# EAGLE library part ATMEGA*8 (library CDC Library v130)
8-bit AVR Microcontroller 4/8/16/32 kbytes flash 512/1k/1k/2k bytes SRAM 256/512/512/1k bytes EEPROM USART, 6/8-channel 10 bit ADC Pin compatible with Atmega8(L,A) Note: ADC6 and ADC7 are not available in 28-lead packages
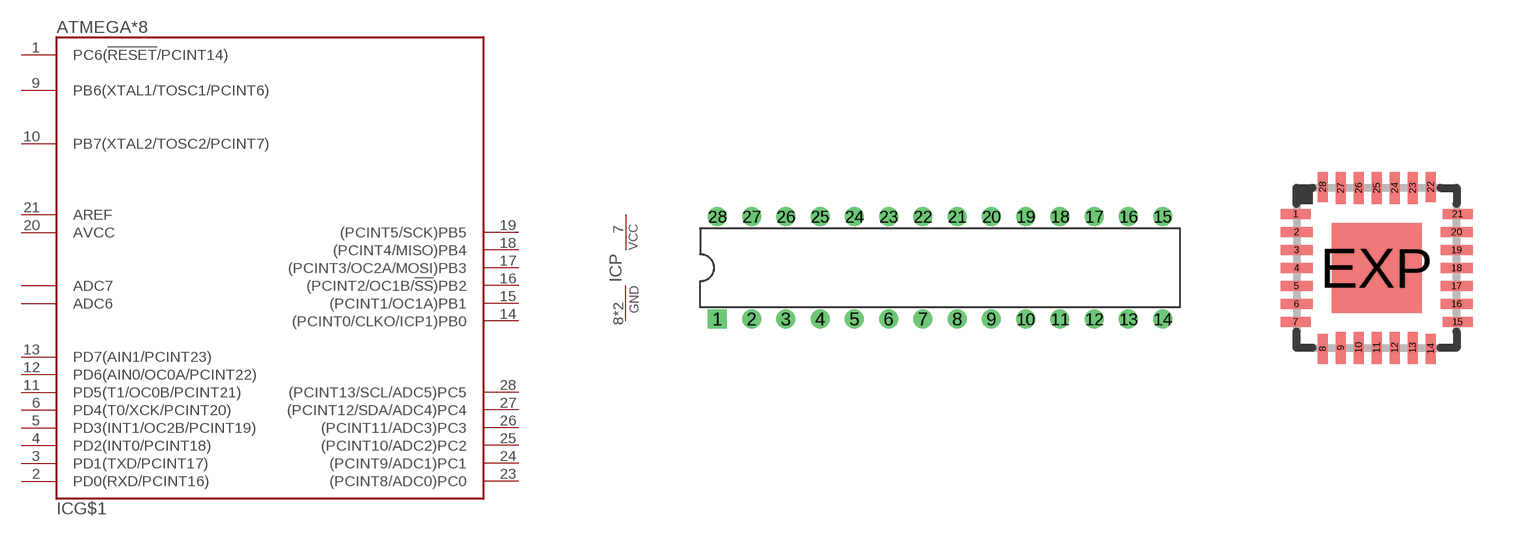
[diagram p0: symbol with the pads of DIL28-3; footprints DIL28-3, QFN28_4X4_0.45]

Designator prefix IC; gates G$1=MEGA328 P=PWR

## ATMEGA168V-10PU, ATMEGA48V-10PU, ATMEGA88V-10PU  [DIL28-3]
1  G$1:PC6(!RESET!/PCINT14)
2  G$1:PD0(RXD/PCINT16)
3  G$1:PD1(TXD/PCINT17)
4  G$1:PD2(INT0/PCINT18)
5  G$1:PD3(INT1/OC2B/PCINT19)
6  G$1:PD4(T0/XCK/PCINT20)
7  P:VCC  pwr
8  P:GND  pwr
9  G$1:PB6(XTAL1/TOSC1/PCINT6)
10  G$1:PB7(XTAL2/TOSC2/PCINT7)
11  G$1:PD5(T1/OC0B/PCINT21)
12  G$1:PD6(AIN0/OC0A/PCINT22)
13  G$1:PD7(AIN1/PCINT23)
14  G$1:(PCINT0/CLKO/ICP1)PB0
15  G$1:(PCINT1/OC1A)PB1
16  G$1:(PCINT2/OC1B/!SS!)PB2
17  G$1:(PCINT3/OC2A/MOSI)PB3
18  G$1:(PCINT4/MISO)PB4
19  G$1:(PCINT5/SCK)PB5
20  G$1:AVCC  pwr
21  G$1:AREF  pas
22  P:GND  pwr
23  G$1:(PCINT8/ADC0)PC0
24  G$1:(PCINT9/ADC1)PC1
25  G$1:(PCINT10/ADC2)PC2
26  G$1:(PCINT11/ADC3)PC3
27  G$1:(PCINT12/SDA/ADC4)PC4
28  G$1:(PCINT13/SCL/ADC5)PC5

## ATMEGA168-20PU, ATMEGA48-20PU, ATMEGA88-20PU  [DIL28-3]
Pads as for DIL28-3

## ATMEGA168PV-10PU, ATMEGA48PV-10PU, ATMEGA88PV-10PU  [DIL28-3]
Pads as for DIL28-3

## ATMEGA168P-20PU, ATMEGA48P-20PU, ATMEGA88P-20PU  [DIL28-3]
Pads as for DIL28-3

## ATMEGA168A-PU, ATMEGA48A-PU, ATMEGA88A-PU  [DIL28-3]
Pads as for DIL28-3

## ATMEGA168PA-PU, ATMEGA48PA-PU, ATMEGA88PA-PU  [DIL28-3]
Pads as for DIL28-3

## ATMEGA168PA-PN, ATMEGA48PA-PN, ATMEGA88PA-PN  [DIL28-3]
Pads as for DIL28-3

## ATMEGA328-PU  [DIL28-3]
Pads as for DIL28-3

## ATMEGA328P-PU  [DIL28-3]
Pads as for DIL28-3

## ATMEGA328P-PN  [DIL28-3]
Pads as for DIL28-3

## ATMEGA48V-10MMU  [QFN28_4X4_0.45]
1  G$1:PD3(INT1/OC2B/PCINT19)
2  G$1:PD4(T0/XCK/PCINT20)
3  P:VCC  pwr
4  P:GND  pwr
5  G$1:PB6(XTAL1/TOSC1/PCINT6)
6  G$1:PB7(XTAL2/TOSC2/PCINT7)
7  G$1:PD5(T1/OC0B/PCINT21)
8  G$1:PD6(AIN0/OC0A/PCINT22)
9  G$1:PD7(AIN1/PCINT23)
10  G$1:(PCINT0/CLKO/ICP1)PB0
11  G$1:(PCINT1/OC1A)PB1
12  G$1:(PCINT2/OC1B/!SS!)PB2
13  G$1:(PCINT3/OC2A/MOSI)PB3
14  G$1:(PCINT4/MISO)PB4
15  G$1:(PCINT5/SCK)PB5
16  G$1:AVCC  pwr
17  G$1:AREF  pas
18  P:GND  pwr
19  G$1:(PCINT8/ADC0)PC0
20  G$1:(PCINT9/ADC1)PC1
21  G$1:(PCINT10/ADC2)PC2
22  G$1:(PCINT11/ADC3)PC3
23  G$1:(PCINT12/SDA/ADC4)PC4
24  G$1:(PCINT13/SCL/ADC5)PC5
25  G$1:PC6(!RESET!/PCINT14)
26  G$1:PD0(RXD/PCINT16)
27  G$1:PD1(TXD/PCINT17)
28  G$1:PD2(INT0/PCINT18)
EXP  P:GND  pwr

## ATMEGA48-20MMU  [QFN28_4X4_0.45]
Pads as for QFN28_4X4_0.45

## ATMEGA48V-10MMH  [QFN28_4X4_0.45]
Pads as for QFN28_4X4_0.45

## ATMEGA48-20MMH  [QFN28_4X4_0.45]
Pads as for QFN28_4X4_0.45

## ATMEGA48PV-10MMU  [QFN28_4X4_0.45]
Pads as for QFN28_4X4_0.45

## ATMEGA48P-20MMU  [QFN28_4X4_0.45]
Pads as for QFN28_4X4_0.45

## ATMEGA168A-MMH, ATMEGA48A-MMH, ATMEGA88A-MMH  [QFN28_4X4_0.45]
Pads as for QFN28_4X4_0.45

## ATMEGA168PA-MMH, ATMEGA48PA-MMH, ATMEGA88PA-MMH  [QFN28_4X4_0.45]
Pads as for QFN28_4X4_0.45

## ATMEGA48PA-MMN, ATMEGA88PA-MMN  [QFN28_4X4_0.45]
Pads as for QFN28_4X4_0.45

## ATMEGA328-MMH  [QFN28_4X4_0.45]
Pads as for QFN28_4X4_0.45

## ATMEGA328P-MMH  [QFN28_4X4_0.45]
Pads as for QFN28_4X4_0.45

## ATMEGA168V-10MU, ATMEGA48V-10MU, ATMEGA88V-10MU  [QFN32_5X5_0.50]
1  G$1:PD3(INT1/OC2B/PCINT19)
2  G$1:PD4(T0/XCK/PCINT20)
3  P:GND  pwr
4  P:VCC  pwr
5  P:GND  pwr
6  P:VCC  pwr
7  G$1:PB6(XTAL1/TOSC1/PCINT6)
8  G$1:PB7(XTAL2/TOSC2/PCINT7)
9  G$1:PD5(T1/OC0B/PCINT21)
10  G$1:PD6(AIN0/OC0A/PCINT22)
11  G$1:PD7(AIN1/PCINT23)
12  G$1:(PCINT0/CLKO/ICP1)PB0
13  G$1:(PCINT1/OC1A)PB1
14  G$1:(PCINT2/OC1B/!SS!)PB2
15  G$1:(PCINT3/OC2A/MOSI)PB3
16  G$1:(PCINT4/MISO)PB4
17  G$1:(PCINT5/SCK)PB5
18  G$1:AVCC  pwr
19  G$1:ADC6
20  G$1:AREF  pas
21  P:GND  pwr
22  G$1:ADC7
23  G$1:(PCINT8/ADC0)PC0
24  G$1:(PCINT9/ADC1)PC1
25  G$1:(PCINT10/ADC2)PC2
26  G$1:(PCINT11/ADC3)PC3
27  G$1:(PCINT12/SDA/ADC4)PC4
28  G$1:(PCINT13/SCL/ADC5)PC5
29  G$1:PC6(!RESET!/PCINT14)
30  G$1:PD0(RXD/PCINT16)
31  G$1:PD1(TXD/PCINT17)
32  G$1:PD2(INT0/PCINT18)
EXP  P:GND  pwr

## ATMEGA168-20MU, ATMEGA48-20MU, ATMEGA88-20MU  [QFN32_5X5_0.50]
Pads as for QFN32_5X5_0.50

## ATMEGA168PV-10MU, ATMEGA48PV-10MU, ATMEGA88PV-10MU  [QFN32_5X5_0.50]
Pads as for QFN32_5X5_0.50

## ATMEGA168P-20MU, ATMEGA48P-20MU, ATMEGA88P-20MU  [QFN32_5X5_0.50]
Pads as for QFN32_5X5_0.50

## ATMEGA168A-MU, ATMEGA48A-MU, ATMEGA88A-MU  [QFN32_5X5_0.50]
Pads as for QFN32_5X5_0.50

## ATMEGA168PA-MU, ATMEGA48PA-MU, ATMEGA88PA-MU  [QFN32_5X5_0.50]
Pads as for QFN32_5X5_0.50

## ATMEGA168PA-MN, ATMEGA48PA-MN, ATMEGA88PA-MN  [QFN32_5X5_0.50]
Pads as for QFN32_5X5_0.50

## ATMEGA328-MU  [QFN32_5X5_0.50]
Pads as for QFN32_5X5_0.50

## ATMEGA328P-MU  [QFN32_5X5_0.50]
Pads as for QFN32_5X5_0.50

## ATMEGA328P-MN  [QFN32_5X5_0.50]
Pads as for QFN32_5X5_0.50

## ATMEGA168V-10AU, ATMEGA48V-10AU, ATMEGA88V-10AU  [QFP32_7X7_0.80]
1  G$1:PD3(INT1/OC2B/PCINT19)
2  G$1:PD4(T0/XCK/PCINT20)
3  P:GND  pwr
4  P:VCC  pwr
5  P:GND  pwr
6  P:VCC  pwr
7  G$1:PB6(XTAL1/TOSC1/PCINT6)
8  G$1:PB7(XTAL2/TOSC2/PCINT7)
9  G$1:PD5(T1/OC0B/PCINT21)
10  G$1:PD6(AIN0/OC0A/PCINT22)
11  G$1:PD7(AIN1/PCINT23)
12  G$1:(PCINT0/CLKO/ICP1)PB0
13  G$1:(PCINT1/OC1A)PB1
14  G$1:(PCINT2/OC1B/!SS!)PB2
15  G$1:(PCINT3/OC2A/MOSI)PB3
16  G$1:(PCINT4/MISO)PB4
17  G$1:(PCINT5/SCK)PB5
18  G$1:AVCC  pwr
19  G$1:ADC6
20  G$1:AREF  pas
21  P:GND  pwr
22  G$1:ADC7
23  G$1:(PCINT8/ADC0)PC0
24  G$1:(PCINT9/ADC1)PC1
25  G$1:(PCINT10/ADC2)PC2
26  G$1:(PCINT11/ADC3)PC3
27  G$1:(PCINT12/SDA/ADC4)PC4
28  G$1:(PCINT13/SCL/ADC5)PC5
29  G$1:PC6(!RESET!/PCINT14)
30  G$1:PD0(RXD/PCINT16)
31  G$1:PD1(TXD/PCINT17)
32  G$1:PD2(INT0/PCINT18)

## ATMEGA168-20AU, ATMEGA48-20AU, ATMEGA88-20AU  [QFP32_7X7_0.80]
Pads as for QFP32_7X7_0.80

## ATMEGA168PV-10AU, ATMEGA48PV-10AU, ATMEGA88PV-10AU  [QFP32_7X7_0.80]
Pads as for QFP32_7X7_0.80

## ATMEGA168P-20AU, ATMEGA48P-20AU, ATMEGA88P-20AU  [QFP32_7X7_0.80]
Pads as for QFP32_7X7_0.80

## ATMEGA168A-AU, ATMEGA48A-AU, ATMEGA88A-AU  [QFP32_7X7_0.80]
Pads as for QFP32_7X7_0.80

## ATMEGA168PA-AU, ATMEGA48PA-AU, ATMEGA88PA-AU  [QFP32_7X7_0.80]
Pads as for QFP32_7X7_0.80

## ATMEGA168PA-AN, ATMEGA48PA-AN, ATMEGA88PA-AN  [QFP32_7X7_0.80]
Pads as for QFP32_7X7_0.80

## ATMEGA328-AU  [QFP32_7X7_0.80]
Pads as for QFP32_7X7_0.80

## ATMEGA328P-AU  [QFP32_7X7_0.80]
Pads as for QFP32_7X7_0.80

## ATMEGA328P-AN  [QFP32_7X7_0.80]
Pads as for QFP32_7X7_0.80

## ATMEGA168A-CCU, ATMEGA48A-CCU, ATMEGA88A-CCU  [32CC1]
A1  G$1:PD2(INT0/PCINT18)
A2  G$1:PD1(TXD/PCINT17)
A3  G$1:PC6(!RESET!/PCINT14)
A4  G$1:(PCINT12/SDA/ADC4)PC4
A5  G$1:(PCINT10/ADC2)PC2
A6  G$1:(PCINT9/ADC1)PC1
B1  G$1:PD3(INT1/OC2B/PCINT19)
B2  G$1:PD4(T0/XCK/PCINT20)
B3  G$1:PD0(RXD/PCINT16)
B4  G$1:(PCINT13/SCL/ADC5)PC5
B5  G$1:(PCINT11/ADC3)PC3
B6  G$1:(PCINT8/ADC0)PC0
C1  P:GND  pwr
C2  P:GND  pwr
C5  G$1:ADC7
C6  P:GND  pwr
D1  P:VCC  pwr
D2  P:VCC  pwr
D5  G$1:AREF  pas
D6  G$1:ADC6
E1  G$1:PB6(XTAL1/TOSC1/PCINT6)
E2  G$1:PD6(AIN0/OC0A/PCINT22)
E3  G$1:(PCINT0/CLKO/ICP1)PB0
E4  G$1:(PCINT2/OC1B/!SS!)PB2
E5  G$1:AVCC  pwr
E6  G$1:(PCINT5/SCK)PB5
F1  G$1:PB7(XTAL2/TOSC2/PCINT7)
F2  G$1:PD5(T1/OC0B/PCINT21)
F3  G$1:PD7(AIN1/PCINT23)
F4  G$1:(PCINT1/OC1A)PB1
F5  G$1:(PCINT3/OC2A/MOSI)PB3
F6  G$1:(PCINT4/MISO)PB4

## ATMEGA168PA-CCU, ATMEGA48PA-CCU, ATMEGA88PA-CCU  [32CC1]
Pads as for 32CC1

## Footprint DIL28-3 (pad centres in mm)
DIL package, pin row distance 300mil
drill 0.8 pad 1.4 square: 1 -16.51,-3.81
drill 0.8 pad 1.4: 2 -13.97,-3.81; 3 -11.43,-3.81; 4 -8.89,-3.81; 5 -6.35,-3.81; 6 -3.81,-3.81; 7 -1.27,-3.81; 8 1.27,-3.81; 9 3.81,-3.81; 10 6.35,-3.81; 11 8.89,-3.81; 12 11.43,-3.81; 13 13.97,-3.81; 14 16.51,-3.81; 15 16.51,3.81; 16 13.97,3.81; 17 11.43,3.81; 18 8.89,3.81; 19 6.35,3.81; 20 3.81,3.81; 21 1.27,3.81; 22 -1.27,3.81; 23 -3.81,3.81; 24 -6.35,3.81; 25 -8.89,3.81; 26 -11.43,3.81; 27 -13.97,3.81; 28 -16.51,3.81

## Footprint QFN28_4X4_0.45 (pad centres in mm)
28-Lead Plastic QFN, 4mm x 4mm body, 0.45mm lead pitch, exposed pad ATMEL Code: 28M1, ZBV
smd 0.75 x 0.25: 1 -2.025,1.35; 7 -2.025,-1.35; 15 2.025,-1.35; 21 2.025,1.35
smd 0.8 x 0.25: 2 -2,0.9; 3 -2,0.45; 4 -2,0; 5 -2,-0.45; 6 -2,-0.9; 16 2,-0.9; 17 2,-0.45; 18 2,0; 19 2,0.45; 20 2,0.9
smd 0.25 x 0.75: 8 -1.35,-2.025; 14 1.35,-2.025; 22 1.35,2.025; 28 -1.35,2.025
smd 0.25 x 0.8: 9 -0.9,-2; 10 -0.45,-2; 11 0,-2; 12 0.45,-2; 13 0.9,-2; 23 0.9,2; 24 0.45,2; 25 0,2; 26 -0.45,2; 27 -0.9,2
smd 2.25 x 2.25: EXP 0,0

## Footprint QFN32_5X5_0.50 (pad centres in mm)
32-Lead Plastic QFN, 5mm x 5mm body, 0.5mm lead pitch, exposed pad ATMEL Code: 32M1-A Micro Lead Frame package (MLF) NXP Code: SOT617
smd 0.8 x 0.3: 1 -2.5,1.75; 2 -2.5,1.25; 3 -2.5,0.75; 4 -2.5,0.25; 5 -2.5,-0.25; 6 -2.5,-0.75; 7 -2.5,-1.25; 8 -2.5,-1.75; 17 2.5,-1.75; 18 2.5,-1.25; 19 2.5,-0.75; 20 2.5,-0.25; 21 2.5,0.25; 22 2.5,0.75; 23 2.5,1.25; 24 2.5,1.75
smd 0.3 x 0.8: 9 -1.75,-2.5; 10 -1.25,-2.5; 11 -0.75,-2.5; 12 -0.25,-2.5; 13 0.25,-2.5; 14 0.75,-2.5; 15 1.25,-2.5; 16 1.75,-2.5; 25 1.75,2.5; 26 1.25,2.5; 27 0.75,2.5; 28 0.25,2.5; 29 -0.25,2.5; 30 -0.75,2.5; 31 -1.25,2.5; 32 -1.75,2.5
smd 3.7 x 3.7: EXP 0,0

## Footprint QFP32_7X7_0.80 (pad centres in mm)
Thin Plasic Quad Flat Package, 7mm x 7mm body, 0.80mm lead pitch JEDEC: MS-026 ABA ATMEL Code: 32A
smd 1.5 x 0.55: 1 -4.2,2.8; 2 -4.2,2; 3 -4.2,1.2; 4 -4.2,0.4; 5 -4.2,-0.4; 6 -4.2,-1.2; 7 -4.2,-2; 8 -4.2,-2.8; 17 4.2,-2.8; 18 4.2,-2; 19 4.2,-1.2; 20 4.2,-0.4; 21 4.2,0.4; 22 4.2,1.2; 23 4.2,2; 24 4.2,2.8
smd 0.55 x 1.5: 9 -2.8,-4.2; 10 -2,-4.2; 11 -1.2,-4.2; 12 -0.4,-4.2; 13 0.4,-4.2; 14 1.2,-4.2; 15 2,-4.2; 16 2.8,-4.2; 25 2.8,4.2; 26 2,4.2; 27 1.2,4.2; 28 0.4,4.2; 29 -0.4,4.2; 30 -1.2,4.2; 31 -2,4.2; 32 -2.8,4.2

## Footprint 32CC1 (pad centres in mm)
fine-pitch Ball Grid Array, 4mm x 4mm body, 0.50mm ball pitch ATMEL Code: 32CC1, CAG
smd 0.25 x 0.25: A1 -1.25,1.25; A2 -0.75,1.25; A3 -0.25,1.25; A4 0.25,1.25; A5 0.75,1.25; A6 1.25,1.25; B1 -1.25,0.75; B2 -0.75,0.75; B3 -0.25,0.75; B4 0.25,0.75; B5 0.75,0.75; B6 1.25,0.75; C1 -1.25,0.25; C2 -0.75,0.25; C5 0.75,0.25; C6 1.25,0.25; D1 -1.25,-0.25; D2 -0.75,-0.25; D5 0.75,-0.25; D6 1.25,-0.25; E1 -1.25,-0.75; E2 -0.75,-0.75; E3 -0.25,-0.75; E4 0.25,-0.75; E5 0.75,-0.75; E6 1.25,-0.75; F1 -1.25,-1.25; F2 -0.75,-1.25; F3 -0.25,-1.25; F4 0.25,-1.25; F5 0.75,-1.25; F6 1.25,-1.25